# Altium footprint library ConnectorsGOST.PcbLib: 50 footprints (part 2 of 4)
Each footprint in its own frame and in the unit in brackets; x right, y up, seen from the top. Pads: shape width x height; smd on the part's side, far side on the other; paste and mask are expansions set on the pad; w line width, h text height; cw(c..) or ccw(c..) is an arc to the next point about the centre after c.
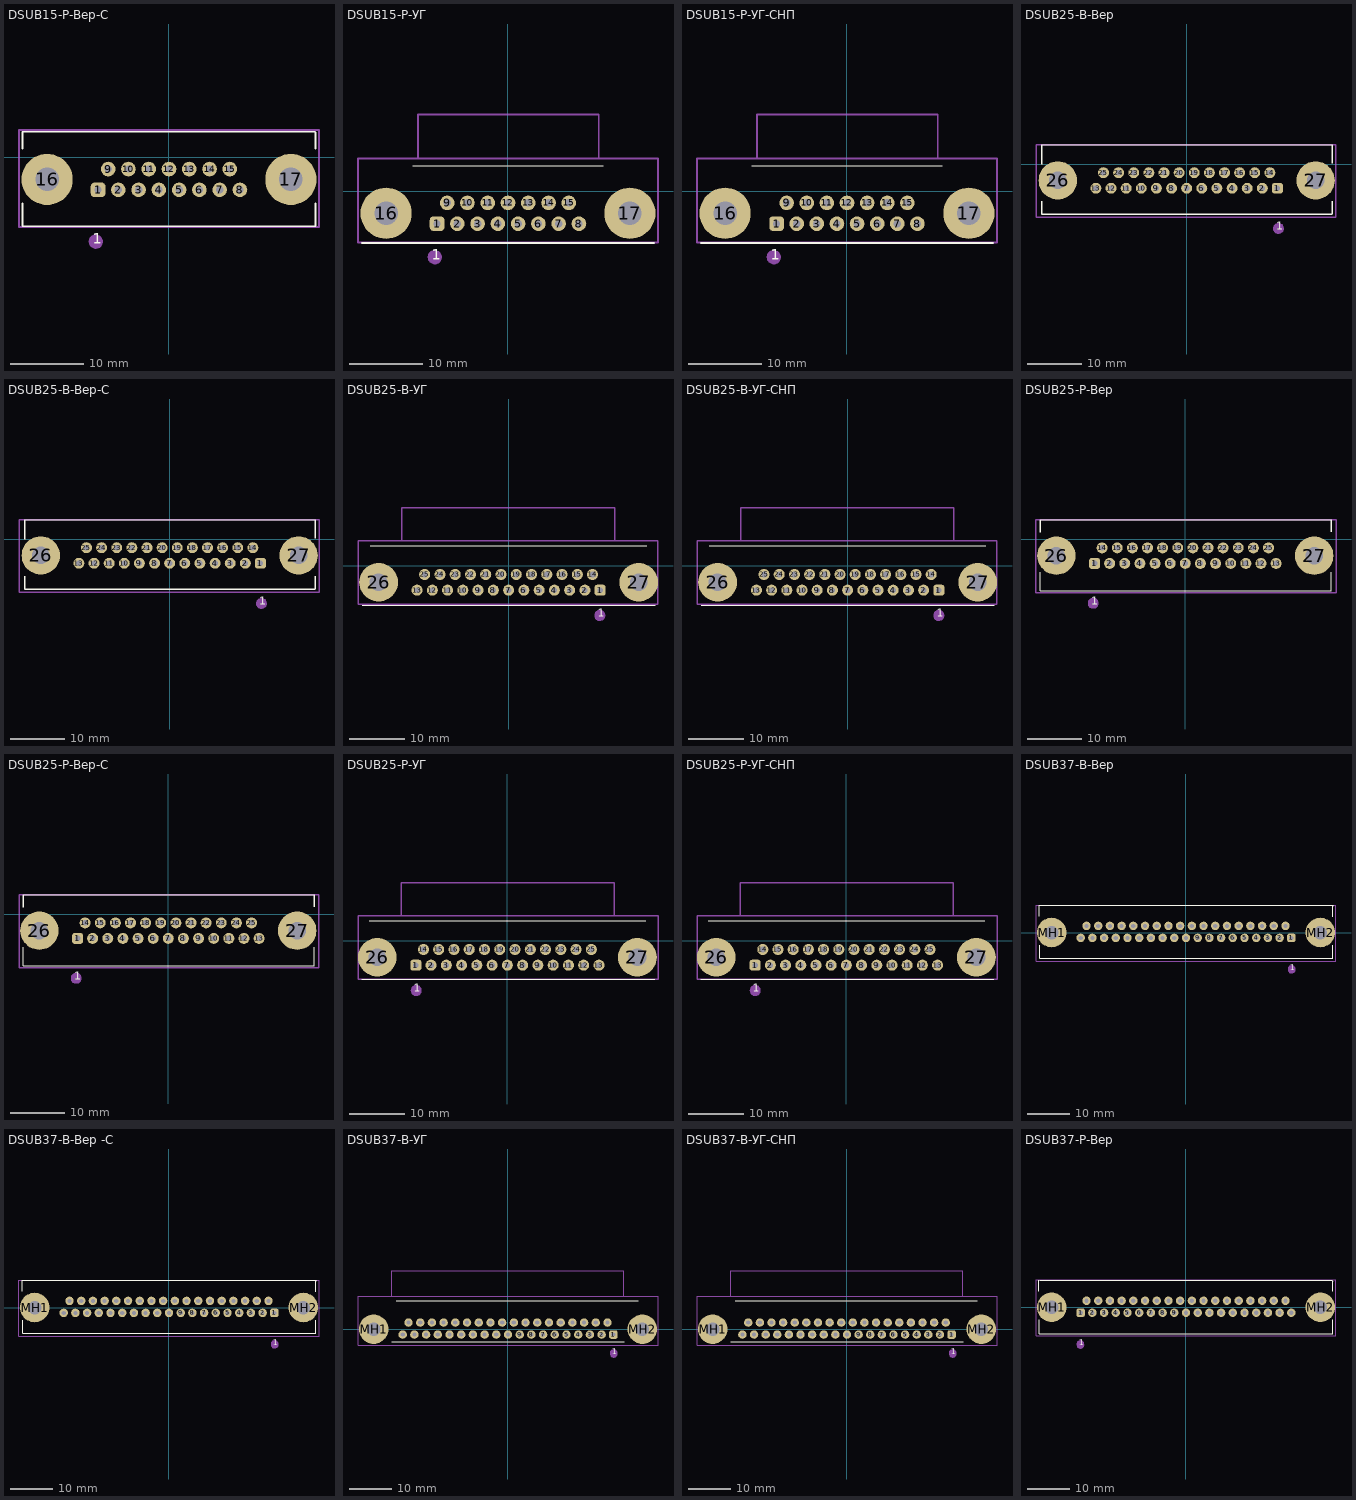
[diagram p1: the footprints below, top view; thin cyan lines are the x and y axes]

## DSUB15-Р-Вер-С [mm] "Connector; D Subminiature; 15 Position; Right Angle; Pitch 1.385 mm"
height 12.75
pads (17):
  rrect50% 2x2 hole 1: 1(-9.695,-4.42)
  round 2 hole 1: 2(-6.925,-4.42) 3(-4.155,-4.42) 4(-1.385,-4.42) 5(1.385,-4.42) 6(4.155,-4.42) 7(6.925,-4.42) 8(9.695,-4.42) 9(-8.31,-1.58) 10(-5.54,-1.58) 11(-2.77,-1.58) 12(0,-1.58) 13(2.77,-1.58) 14(5.54,-1.58) 15(8.31,-1.58)
  round 7 / inner round 4.2 / far side round 7 hole 3.2: 16(-16.66,-3) 17(16.66,-3)
Top Overlay:
  lines w0.2: -20,3.5 20,3.5
  lines w0.25: -20,1.25 -20,3.5 ; 20,1.25 20,3.4
  lines w0.254: -20,-6.25 -20,-9.4 20,-9.4 20,-6.25
  text "1" at -10.4,-12.3 h2.5
Top Sborka:
  circle w0.8: c-10,-11.5 r0.4
  circle w0.25: c-10,-11.5 r0.09
  circle w0.25: c-10,-11.5 r0.506
  circle w0.25: c-10,-11.5 r0.861
  circle w0.25: c-10,-11.5 r0.292
  circle w0.25: c-10,-11.5 r0.704
  lines w0.25: -20.5,-9.5 20.5,-9.5 20.5,3.75 -20.5,3.75 -20.5,-9.5
Top Designator (Mech16):
  text ".Designator" at -5.15,-3.747 h2.5
3D body "Сборка D-SUB15-Р-Вер-С.stp": height 11.8, standoff -5.01, extent -19.6,-9.1 19.6,3.4

## DSUB15-Р-УГ [mm] "Connector; D Subminiature; 15 Position; Right Angle; Pitch 1.385 mm"
height 12.75
pads (17):
  rrect50% 2x2 hole 1: 1(-9.695,-4.42)
  round 2 hole 1: 2(-6.925,-4.42) 3(-4.155,-4.42) 4(-1.385,-4.42) 5(1.385,-4.42) 6(4.155,-4.42) 7(6.925,-4.42) 8(9.695,-4.42) 9(-8.31,-1.58) 10(-5.54,-1.58) 11(-2.77,-1.58) 12(0,-1.58) 13(2.77,-1.58) 14(5.54,-1.58) 15(8.31,-1.58)
  round 7 / inner round 4.2 / far side round 7 hole 3.2: 16(-16.66,-3) 17(16.66,-3)
Top Overlay:
  lines w0.15: -13,3.5 13,3.5
  lines w0.25: -19.988,-7.075 19.975,-7.075
  text "1" at -10.4,-9.8 h2.5
Top Sborka:
  circle w0.25: c-10,-9 r0.704
  circle w0.25: c-10,-9 r0.292
  circle w0.25: c-10,-9 r0.861
  circle w0.25: c-10,-9 r0.506
  circle w0.25: c-10,-9 r0.09
  circle w0.8: c-10,-9 r0.4
  lines w0.25: -20.5,-7 20.5,-7 20.5,4.5 -20.5,4.5 -20.5,-7 ; -12.3,4.5 12.4,4.5 12.4,10.5 -12.3,10.5 -12.3,4.5
Top Designator (Mech16):
  text ".Designator" at -5.15,-3.647 h2.5
3D body "DSUB-15_Female_Horizontal_P2.77x2.84mm_EdgePinOffset4.94mm_Housed_MountingHolesOffset7.48mm.step": height 12.5, standoff -5.4, extent -19.675,-7.2 19.525,9.68

## DSUB15-Р-УГ-СНП [mm] "Connector; D Subminiature; 15 Position; Right Angle; Pitch 1.385 mm"
height 12.75
pads (17):
  rrect50% 2x2 hole 1: 1(-9.625,-4.42)
  round 2 hole 1: 2(-6.875,-4.42) 3(-4.125,-4.42) 4(-1.375,-4.42) 5(1.375,-4.42) 6(4.125,-4.42) 7(6.875,-4.42) 8(9.625,-4.42) 9(-8.25,-1.58) 10(-5.5,-1.58) 11(-2.75,-1.58) 12(0,-1.58) 13(2.75,-1.58) 14(5.5,-1.58) 15(8.25,-1.58)
  round 7 / inner round 4.2 / far side round 7 hole 3.2: 16(-16.66,-3) 17(16.66,-3)
Top Overlay:
  lines w0.15: -13,3.5 13,3.5
  lines w0.25: -19.988,-7.075 19.975,-7.075
  text "1" at -10.4,-9.8 h2.5
Top Sborka:
  circle w0.8: c-10,-9 r0.4
  circle w0.25: c-10,-9 r0.09
  circle w0.25: c-10,-9 r0.506
  circle w0.25: c-10,-9 r0.861
  circle w0.25: c-10,-9 r0.292
  circle w0.25: c-10,-9 r0.704
  lines w0.25: -20.5,-7 20.5,-7 20.5,4.5 -20.5,4.5 -20.5,-7 ; -12.3,4.5 12.4,4.5 12.4,10.5 -12.3,10.5 -12.3,4.5
Top Designator (Mech16):
  text ".Designator" at -5.15,-3.647 h2.5
3D body "DSUB-15_Female_Horizontal_P2.77x2.84mm_EdgePinOffset4.94mm_Housed_MountingHolesOffset7.48mm.step": height 12.5, standoff -5.4, extent -19.675,-7.2 19.525,9.68

## DSUB25-В-Вер [mm] "Connector; D Subminiature; 25 Position; Right Angle; Pitch 1.385 mm"
height 12.93
pads (27):
  rrect50% 2x2 hole 1: 1(16.566,-4.42)
  round 2 hole 1: 2(13.805,-4.42) 3(11.044,-4.42) 4(8.283,-4.42) 5(5.522,-4.42) 6(2.761,-4.42) 7(0,-4.42) 8(-2.761,-4.42) 9(-5.522,-4.42) 10(-8.283,-4.42) 11(-11.044,-4.42) 12(-13.805,-4.42) 13(-16.566,-4.42) 14(15.185,-1.58) 15(12.424,-1.58) 16(9.663,-1.58) 17(6.902,-1.58) 18(4.141,-1.58) 19(1.38,-1.58) 20(-1.381,-1.58) 21(-4.142,-1.58) 22(-6.903,-1.58) 23(-9.664,-1.58) 24(-12.425,-1.58) 25(-15.186,-1.58)
  round 7 / inner round 4.2 / far side round 7 hole 3.2: 26(-23.526,-3) 27(23.526,-3)
Top Overlay:
  lines w0.2: -26.496,3.5 26.604,3.5
  lines w0.25: -26.496,0.004 -26.496,3.5 ; 26.604,0.104 26.604,3.5
  lines w0.254: -26.496,-6.75 -26.496,-9.196 -26.492,-9.2 26.5,-9.2 ; 26.604,-9.196 26.604,-6.75
  text "1" at 16.35,-12.543 h2.5
Top Sborka:
  circle w0.25: c16.75,-11.75 r0.704
  circle w0.25: c16.75,-11.75 r0.292
  circle w0.25: c16.75,-11.75 r0.861
  circle w0.25: c16.75,-11.75 r0.506
  circle w0.25: c16.75,-11.75 r0.09
  circle w0.8: c16.75,-11.75 r0.4
  lines w0.25: -27.5,-9.75 27.25,-9.75 27.25,3.5 -27.5,3.5 -27.5,-9.75
Top Designator (Mech16):
  text ".Designator" at -5.15,-3.947 h2.5
3D body "DSUB-25_Male_Vertical_P2.77x2.84mm_MountingHoles.step": height 10.5, standoff -3.9, extent -26.55,-9.2 26.55,3.3

## DSUB25-В-Вер-С [mm] "Connector; D Subminiature; 25 Position; Right Angle; Pitch 1.385 mm"
height 12.93
pads (27):
  rrect50% 2x2 hole 1: 1(16.566,-4.42)
  round 2 hole 1: 2(13.805,-4.42) 3(11.044,-4.42) 4(8.283,-4.42) 5(5.522,-4.42) 6(2.761,-4.42) 7(0,-4.42) 8(-2.761,-4.42) 9(-5.522,-4.42) 10(-8.283,-4.42) 11(-11.044,-4.42) 12(-13.805,-4.42) 13(-16.566,-4.42) 14(15.185,-1.58) 15(12.424,-1.58) 16(9.663,-1.58) 17(6.902,-1.58) 18(4.141,-1.58) 19(1.38,-1.58) 20(-1.381,-1.58) 21(-4.142,-1.58) 22(-6.903,-1.58) 23(-9.664,-1.58) 24(-12.425,-1.58) 25(-15.186,-1.58)
  round 7 / inner round 4.2 / far side round 7 hole 3.2: 26(-23.526,-3) 27(23.526,-3)
Top Overlay:
  lines w0.2: -26.496,3.5 26.604,3.5
  lines w0.25: -26.496,0.004 -26.496,3.5 ; 26.604,0.104 26.604,3.5
  lines w0.254: -26.496,-6.75 -26.496,-9.196 -26.492,-9.2 26.5,-9.2 ; 26.604,-9.196 26.604,-6.75
  text "1" at 16.35,-12.543 h2.5
Top Sborka:
  circle w0.8: c16.75,-11.75 r0.4
  circle w0.25: c16.75,-11.75 r0.09
  circle w0.25: c16.75,-11.75 r0.506
  circle w0.25: c16.75,-11.75 r0.861
  circle w0.25: c16.75,-11.75 r0.292
  circle w0.25: c16.75,-11.75 r0.704
  lines w0.25: -27.5,-9.75 27.25,-9.75 27.25,3.5 -27.5,3.5 -27.5,-9.75
Top Designator (Mech16):
  text ".Designator" at -5.15,-3.947 h2.5
3D body "Сборка D-SUB25-В-Вер-С.stp": height 11.5, standoff -5, extent -26.57,-9.23 26.53,3.27

## DSUB25-В-УГ [mm] "Connector; D Subminiature; 25 Position; Right Angle; Pitch 1.385 mm"
height 12.93
pads (27):
  rrect50% 2x2 hole 1: 1(16.566,-4.42)
  round 2 hole 1: 2(13.805,-4.42) 3(11.044,-4.42) 4(8.283,-4.42) 5(5.522,-4.42) 6(2.761,-4.42) 7(0,-4.42) 8(-2.761,-4.42) 9(-5.522,-4.42) 10(-8.283,-4.42) 11(-11.044,-4.42) 12(-13.805,-4.42) 13(-16.566,-4.42) 14(15.185,-1.58) 15(12.424,-1.58) 16(9.663,-1.58) 17(6.902,-1.58) 18(4.141,-1.58) 19(1.38,-1.58) 20(-1.381,-1.58) 21(-4.142,-1.58) 22(-6.903,-1.58) 23(-9.664,-1.58) 24(-12.425,-1.58) 25(-15.186,-1.58)
  round 7 / inner round 4.2 / far side round 7 hole 3.2: 26(-23.526,-3) 27(23.526,-3)
Top Overlay:
  lines w0.15: -25,3.6 25,3.6
  lines w0.2: -26.5,-7.1 26.5,-7.1
  text "1" at 16.1,-9.8 h2.5
Top Sborka:
  circle w0.25: c16.5,-9 r0.704
  circle w0.25: c16.5,-9 r0.292
  circle w0.25: c16.5,-9 r0.861
  circle w0.25: c16.5,-9 r0.506
  circle w0.25: c16.5,-9 r0.09
  circle w0.8: c16.5,-9 r0.4
  lines w0.25: -27.25,-7 27,-7 27,4.5 -27.25,4.5 -27.25,-7 ; -19.3,4.5 19.2,4.5 19.2,10.5 -19.3,10.5 -19.3,4.5
Top Designator (Mech16):
  text ".Designator" at -5.15,-3.547 h2.5
3D body "DSUB-25_Male_Horizontal_P2.77x2.84mm_EdgePinOffset4.94mm_Housed_MountingHolesOffset7.48mm.step": height 12.5, standoff -5.4, extent -26.55,-6.98 26.55,9.6

## DSUB25-В-УГ-СНП [mm] "Connector; D Subminiature; 25 Position; Right Angle; Pitch 1.385 mm"
height 12.93
pads (27):
  rrect50% 2x2 hole 1: 1(16.5,-4.42)
  round 2 hole 1: 2(13.75,-4.42) 3(11,-4.42) 4(8.25,-4.42) 5(5.5,-4.42) 6(2.75,-4.42) 7(0,-4.42) 8(-2.75,-4.42) 9(-5.5,-4.42) 10(-8.25,-4.42) 11(-11,-4.42) 12(-13.75,-4.42) 13(-16.5,-4.42) 14(15.125,-1.58) 15(12.375,-1.58) 16(9.625,-1.58) 17(6.875,-1.58) 18(4.125,-1.58) 19(1.375,-1.58) 20(-1.375,-1.58) 21(-4.125,-1.58) 22(-6.875,-1.58) 23(-9.625,-1.58) 24(-12.375,-1.58) 25(-15.125,-1.58)
  round 7 / inner round 4.2 / far side round 7 hole 3.2: 26(-23.526,-3) 27(23.526,-3)
Top Overlay:
  lines w0.15: -25,3.6 25,3.6
  lines w0.2: -26.5,-7.1 26.5,-7.1
  text "1" at 16.1,-9.8 h2.5
Top Sborka:
  circle w0.25: c16.5,-9 r0.704
  circle w0.25: c16.5,-9 r0.292
  circle w0.25: c16.5,-9 r0.861
  circle w0.25: c16.5,-9 r0.506
  circle w0.25: c16.5,-9 r0.09
  circle w0.8: c16.5,-9 r0.4
  lines w0.25: -27.25,-7 27,-7 27,4.5 -27.25,4.5 -27.25,-7 ; -19.3,4.5 19.2,4.5 19.2,10.5 -19.3,10.5 -19.3,4.5
Top Designator (Mech16):
  text ".Designator" at -5.15,-3.547 h2.5
3D body "DSUB-25_Male_Horizontal_P2.77x2.84mm_EdgePinOffset4.94mm_Housed_MountingHolesOffset7.48mm.step": height 12.5, standoff -5.4, extent -26.55,-6.98 26.55,9.6

## DSUB25-Р-Вер [mm] "Connector; D Subminiature; 25 Position; Right Angle; Pitch 1.385 mm"
height 12.93
pads (27):
  rrect50% 2x2 hole 1: 1(-16.566,-4.42)
  round 2 hole 1: 2(-13.805,-4.42) 3(-11.044,-4.42) 4(-8.283,-4.42) 5(-5.522,-4.42) 6(-2.761,-4.42) 7(0,-4.42) 8(2.761,-4.42) 9(5.522,-4.42) 10(8.283,-4.42) 11(11.044,-4.42) 12(13.805,-4.42) 13(16.566,-4.42) 14(-15.185,-1.58) 15(-12.424,-1.58) 16(-9.663,-1.58) 17(-6.902,-1.58) 18(-4.141,-1.58) 19(-1.38,-1.58) 20(1.381,-1.58) 21(4.142,-1.58) 22(6.903,-1.58) 23(9.664,-1.58) 24(12.425,-1.58) 25(15.186,-1.58)
  round 7 / inner round 4.2 / far side round 7 hole 3.2: 26(-23.526,-3) 27(23.526,-3)
Top Overlay:
  lines w0.2: -26.496,-6 -26.496,-9.4 26.604,-9.4 26.604,-6 ; -26.496,3.5 26.604,3.5
  lines w0.25: -26.496,1.254 -26.496,3.5 ; 26.604,1.354 26.604,3.5
  text "1" at -17.2,-12.5 h2.5
Top Sborka:
  circle w0.8: c-16.8,-11.7 r0.4
  circle w0.25: c-16.8,-11.7 r0.09
  circle w0.25: c-16.8,-11.7 r0.506
  circle w0.25: c-16.8,-11.7 r0.861
  circle w0.25: c-16.8,-11.7 r0.292
  circle w0.25: c-16.8,-11.7 r0.704
  lines w0.25: -27.25,-9.75 27.5,-9.75 27.5,3.5 -27.25,3.5 -27.25,-9.75
Top Designator (Mech16):
  text ".Designator" at -5.15,-3.547 h2.5
3D body "DSUB-25_Female_Vertical_P2.77x2.84mm_MountingHoles.step": height 10.8, standoff -3.9, extent -26.55,-9.2 26.55,3.3

## DSUB25-Р-Вер-С [mm] "Connector; D Subminiature; 25 Position; Right Angle; Pitch 1.385 mm"
height 12.93
pads (27):
  rrect50% 2x2 hole 1: 1(-16.566,-4.42)
  round 2 hole 1: 2(-13.805,-4.42) 3(-11.044,-4.42) 4(-8.283,-4.42) 5(-5.522,-4.42) 6(-2.761,-4.42) 7(0,-4.42) 8(2.761,-4.42) 9(5.522,-4.42) 10(8.283,-4.42) 11(11.044,-4.42) 12(13.805,-4.42) 13(16.566,-4.42) 14(-15.185,-1.58) 15(-12.424,-1.58) 16(-9.663,-1.58) 17(-6.902,-1.58) 18(-4.141,-1.58) 19(-1.38,-1.58) 20(1.381,-1.58) 21(4.142,-1.58) 22(6.903,-1.58) 23(9.664,-1.58) 24(12.425,-1.58) 25(15.186,-1.58)
  round 7 / inner round 4.2 / far side round 7 hole 3.2: 26(-23.526,-3) 27(23.526,-3)
Top Overlay:
  lines w0.2: -26.496,-6 -26.496,-9.4 26.604,-9.4 26.604,-6 ; -26.496,3.5 26.604,3.5
  lines w0.25: -26.496,1.254 -26.496,3.5 ; 26.604,1.354 26.604,3.5
  text "1" at -17.2,-12.5 h2.5
Top Sborka:
  circle w0.25: c-16.8,-11.7 r0.704
  circle w0.25: c-16.8,-11.7 r0.292
  circle w0.25: c-16.8,-11.7 r0.861
  circle w0.25: c-16.8,-11.7 r0.506
  circle w0.25: c-16.8,-11.7 r0.09
  circle w0.8: c-16.8,-11.7 r0.4
  lines w0.25: -27.25,-9.75 27.5,-9.75 27.5,3.5 -27.25,3.5 -27.25,-9.75
Top Designator (Mech16):
  text ".Designator" at -5.15,-3.547 h2.5
3D body "Сборка D-SUB25-Р-Вер-С.stp": height 11.8, standoff -5, extent -26.45,-9.2 26.65,3.3

## DSUB25-Р-УГ [mm] "Connector; D Subminiature; 25 Position; Right Angle; Pitch 1.385 mm"
height 12.93
pads (27):
  rrect50% 2x2 hole 1: 1(-16.566,-4.42)
  round 2 hole 1: 2(-13.805,-4.42) 3(-11.044,-4.42) 4(-8.283,-4.42) 5(-5.522,-4.42) 6(-2.761,-4.42) 7(0,-4.42) 8(2.761,-4.42) 9(5.522,-4.42) 10(8.283,-4.42) 11(11.044,-4.42) 12(13.805,-4.42) 13(16.566,-4.42) 14(-15.185,-1.58) 15(-12.424,-1.58) 16(-9.663,-1.58) 17(-6.902,-1.58) 18(-4.141,-1.58) 19(-1.38,-1.58) 20(1.381,-1.58) 21(4.142,-1.58) 22(6.903,-1.58) 23(9.664,-1.58) 24(12.425,-1.58) 25(15.186,-1.58)
  round 7 / inner round 4.2 / far side round 7 hole 3.2: 26(-23.526,-3) 27(23.526,-3)
Top Overlay:
  lines w0.15: -25,3.6 25,3.6
  lines w0.2: -26.375,-7 26.625,-7
  text "1" at -16.9,-9.8 h2.5
Top Sborka:
  circle w0.25: c-16.5,-9 r0.704
  circle w0.25: c-16.5,-9 r0.292
  circle w0.25: c-16.5,-9 r0.861
  circle w0.25: c-16.5,-9 r0.506
  circle w0.25: c-16.5,-9 r0.09
  circle w0.8: c-16.5,-9 r0.4
  lines w0.25: -27,-7 27.25,-7 27.25,4.5 -27,4.5 -27,-7 ; -19.2,4.5 19.3,4.5 19.3,10.5 -19.2,10.5 -19.2,4.5
Top Designator (Mech16):
  text ".Designator" at -5.15,-2.347 h2.5
3D body "DSUB-25_Female_Horizontal_P2.77x2.84mm_EdgePinOffset4.94mm_Housed_MountingHolesOffset7.48mm.step": height 12.5, standoff -5.4, extent -26.525,-7.03 26.575,9.85

## DSUB25-Р-УГ-СНП [mm] "Connector; D Subminiature; 25 Position; Right Angle; Pitch 1.385 mm"
height 12.93
pads (27):
  rrect50% 2x2 hole 1: 1(-16.5,-4.42)
  round 2 hole 1: 2(-13.75,-4.42) 3(-11,-4.42) 4(-8.25,-4.42) 5(-5.5,-4.42) 6(-2.75,-4.42) 7(0,-4.42) 8(2.75,-4.42) 9(5.5,-4.42) 10(8.25,-4.42) 11(11,-4.42) 12(13.75,-4.42) 13(16.5,-4.42) 14(-15.125,-1.58) 15(-12.375,-1.58) 16(-9.625,-1.58) 17(-6.875,-1.58) 18(-4.125,-1.58) 19(-1.375,-1.58) 20(1.375,-1.58) 21(4.125,-1.58) 22(6.875,-1.58) 23(9.625,-1.58) 24(12.375,-1.58) 25(15.125,-1.58)
  round 7 / inner round 4.2 / far side round 7 hole 3.2: 26(-23.526,-3) 27(23.526,-3)
Top Overlay:
  lines w0.15: -25,3.6 25,3.6
  lines w0.2: -26.375,-7 26.625,-7
  text "1" at -16.9,-9.8 h2.5
Top Sborka:
  circle w0.8: c-16.5,-9 r0.4
  circle w0.25: c-16.5,-9 r0.09
  circle w0.25: c-16.5,-9 r0.506
  circle w0.25: c-16.5,-9 r0.861
  circle w0.25: c-16.5,-9 r0.292
  circle w0.25: c-16.5,-9 r0.704
  lines w0.25: -27,-7 -27,4.5 27.25,4.5 27.25,-7 -27,-7 ; -19.2,4.5 -19.2,10.5 19.3,10.5 19.3,4.5 -19.2,4.5
Top Designator (Mech16):
  text ".Designator" at -5.15,-2.347 h2.5
3D body "DSUB-25_Female_Horizontal_P2.77x2.84mm_EdgePinOffset4.94mm_Housed_MountingHolesOffset7.48mm.step": height 12.5, standoff -5.4, extent -26.525,-7.03 26.575,9.85

## DSUB37-В-Вер [mm] "CONN, DSUB MINIATURE, 37PIN, R/A, MALE"
pads (39):
  rrect50% 2x2 hole 1 mask+0.1: 1(24.93,-1.27)
  round 2 hole 1 mask+0.1: 2(22.16,-1.27) 3(19.39,-1.27) 4(16.62,-1.27) 5(13.85,-1.27) 6(11.08,-1.27) 7(8.31,-1.27) 8(5.54,-1.27) 9(2.77,-1.27) 10(0,-1.27) 11(-2.77,-1.27) 12(-5.54,-1.27) 13(-8.31,-1.27) 14(-11.08,-1.27) 15(-13.85,-1.27) 16(-16.62,-1.27) 17(-19.39,-1.27) 18(-22.16,-1.27) 19(-24.93,-1.27) 20(23.545,1.57) 21(20.775,1.57) 22(18.005,1.57) 23(15.235,1.57) 24(12.465,1.57) 25(9.695,1.57) 26(6.925,1.57) 27(4.155,1.57) 28(1.385,1.57) 29(-1.385,1.57) 30(-4.155,1.57) 31(-6.925,1.57) 32(-9.695,1.57) 33(-12.465,1.57) 34(-15.235,1.57) 35(-18.005,1.57) 36(-20.775,1.57) 37(-23.545,1.57)
  round 7 / inner round 4.2 / far side round 7 hole 3.2: MH1(-31.8,0) MH2(31.8,0)
Top Overlay:
  lines w0.2: -34.646,-2.963 -34.646,-6.1 34.781,-6.1 34.781,-2.963
  lines w0.25: -34.7,3.8 -34.7,6.4 ; 34.75,3.75 34.75,6.35
  lines w0.254: -34.7,6.4 34.7,6.4 34.8,6.3
  text "1" at 24.598,-9.499 h2.5
Top Sborka:
  circle w0.25: c25,-8.7 r0.704
  circle w0.25: c25,-8.7 r0.292
  circle w0.25: c25,-8.7 r0.861
  circle w0.25: c25,-8.7 r0.506
  circle w0.25: c25,-8.7 r0.09
  circle w0.8: c25,-8.7 r0.4
  lines w0.25: -35.5,-6.75 35.5,-6.75 35.5,6.5 -35.5,6.5 -35.5,-6.75
Top Designator (Mech16):
  text ".Designator" at -5.15,-0.547 h2.5
3D body "DSUB-37_Female_Vertical_P2.77x2.84mm_MountingHoles.step": height 10.8, standoff -3.9, extent -34.7,-6.1 34.7,6.4

## DSUB37-В-Вер -С [mm] "CONN, DSUB MINIATURE, 37PIN, R/A, MALE"
pads (39):
  rrect50% 2x2 hole 1 mask+0.1: 1(24.93,-1.27)
  round 2 hole 1 mask+0.1: 2(22.16,-1.27) 3(19.39,-1.27) 4(16.62,-1.27) 5(13.85,-1.27) 6(11.08,-1.27) 7(8.31,-1.27) 8(5.54,-1.27) 9(2.77,-1.27) 10(0,-1.27) 11(-2.77,-1.27) 12(-5.54,-1.27) 13(-8.31,-1.27) 14(-11.08,-1.27) 15(-13.85,-1.27) 16(-16.62,-1.27) 17(-19.39,-1.27) 18(-22.16,-1.27) 19(-24.93,-1.27) 20(23.545,1.57) 21(20.775,1.57) 22(18.005,1.57) 23(15.235,1.57) 24(12.465,1.57) 25(9.695,1.57) 26(6.925,1.57) 27(4.155,1.57) 28(1.385,1.57) 29(-1.385,1.57) 30(-4.155,1.57) 31(-6.925,1.57) 32(-9.695,1.57) 33(-12.465,1.57) 34(-15.235,1.57) 35(-18.005,1.57) 36(-20.775,1.57) 37(-23.545,1.57)
  round 7 / inner round 4.2 / far side round 7 hole 3.2: MH1(-31.8,0) MH2(31.8,0)
Top Overlay:
  lines w0.2: -34.646,-2.963 -34.646,-6.1 34.781,-6.1 34.781,-2.963
  lines w0.25: -34.7,3.8 -34.7,6.4 ; 34.75,3.75 34.75,6.35
  lines w0.254: -34.7,6.4 34.7,6.4 34.8,6.3
  text "1" at 24.598,-9.499 h2.5
Top Sborka:
  circle w0.25: c25,-8.7 r0.704
  circle w0.25: c25,-8.7 r0.292
  circle w0.25: c25,-8.7 r0.861
  circle w0.25: c25,-8.7 r0.506
  circle w0.25: c25,-8.7 r0.09
  circle w0.8: c25,-8.7 r0.4
  lines w0.25: -35.5,-6.75 -35.5,6.5 35.5,6.5 35.5,-6.75 -35.5,-6.75
Top Designator (Mech16):
  text ".Designator" at -5.15,-0.547 h2.5
3D body "Сборка D-SUB37-В-Вер-С.stp": height 11.5, standoff -5, extent -34.83,-6.03 34.57,6.47

## DSUB37-В-УГ [mm] "CONN, DSUB MINIATURE, 37PIN, R/A, MALE"
pads (39):
  rrect50% 2x2 hole 1 mask+0.1: 1(24.93,-1.27)
  round 2 hole 1 mask+0.1: 2(22.16,-1.27) 3(19.39,-1.27) 4(16.62,-1.27) 5(13.85,-1.27) 6(11.08,-1.27) 7(8.31,-1.27) 8(5.54,-1.27) 9(2.77,-1.27) 10(0,-1.27) 11(-2.77,-1.27) 12(-5.54,-1.27) 13(-8.31,-1.27) 14(-11.08,-1.27) 15(-13.85,-1.27) 16(-16.62,-1.27) 17(-19.39,-1.27) 18(-22.16,-1.27) 19(-24.93,-1.27) 20(23.545,1.57) 21(20.775,1.57) 22(18.005,1.57) 23(15.235,1.57) 24(12.465,1.57) 25(9.695,1.57) 26(6.925,1.57) 27(4.155,1.57) 28(1.385,1.57) 29(-1.385,1.57) 30(-4.155,1.57) 31(-6.925,1.57) 32(-9.695,1.57) 33(-12.465,1.57) 34(-15.235,1.57) 35(-18.005,1.57) 36(-20.775,1.57) 37(-23.545,1.57)
  round 7 / inner round 4.2 / far side round 7 hole 3.2: MH1(-31.8,0) MH2(31.8,0)
Top Overlay:
  lines w0.15: -26.4,6.7 30.8,6.7
  lines w0.2: -27.5,-3 27.5,-2.963
  text "1" at 24.6,-6.5 h2.5
Top Sborka:
  circle w0.25: c25,-5.75 r0.704
  circle w0.25: c25,-5.75 r0.292
  circle w0.25: c25,-5.75 r0.861
  circle w0.25: c25,-5.75 r0.506
  circle w0.25: c25,-5.75 r0.09
  circle w0.8: c25,-5.75 r0.4
  lines w0.25: -35.5,-3.75 -35.5,7.8 35.5,7.8 35.5,-3.75 -35.5,-3.75 ; -27.5,7.8 27.4,7.8 27.4,13.8 -27.5,13.8 -27.5,7.8
Top Designator (Mech16):
  text ".Designator" at -5.15,-0.547 h2.5
3D body "connector_a-DSUB37RM_a_kg-t1.stp": height 12.57, standoff -4.3, extent -34.66,-2.9 34.66,18

## DSUB37-В-УГ-СНП [mm] "CONN, DSUB MINIATURE, 37PIN, R/A, MALE"
pads (39):
  rrect50% 2x2 hole 1 mask+0.1: 1(24.75,-1.27)
  round 2 hole 1 mask+0.1: 2(22,-1.27) 3(19.25,-1.27) 4(16.5,-1.27) 5(13.75,-1.27) 6(11,-1.27) 7(8.25,-1.27) 8(5.5,-1.27) 9(2.75,-1.27) 10(0,-1.27) 11(-2.75,-1.27) 12(-5.5,-1.27) 13(-8.25,-1.27) 14(-11,-1.27) 15(-13.75,-1.27) 16(-16.5,-1.27) 17(-19.25,-1.27) 18(-22,-1.27) 19(-24.75,-1.27) 20(23.375,1.57) 21(20.625,1.57) 22(17.875,1.57) 23(15.125,1.57) 24(12.375,1.57) 25(9.625,1.57) 26(6.875,1.57) 27(4.125,1.57) 28(1.375,1.57) 29(-1.375,1.57) 30(-4.125,1.57) 31(-6.875,1.57) 32(-9.625,1.57) 33(-12.375,1.57) 34(-15.125,1.57) 35(-17.875,1.57) 36(-20.625,1.57) 37(-23.375,1.57)
  round 7 / inner round 4.2 / far side round 7 hole 3.2: MH1(-31.8,0) MH2(31.8,0)
Top Overlay:
  lines w0.15: -26.4,6.7 30.8,6.7
  lines w0.2: -27.5,-3 27.5,-2.963
  text "1" at 24.6,-6.5 h2.5
Top Sborka:
  circle w0.8: c25,-5.75 r0.4
  circle w0.25: c25,-5.75 r0.09
  circle w0.25: c25,-5.75 r0.506
  circle w0.25: c25,-5.75 r0.861
  circle w0.25: c25,-5.75 r0.292
  circle w0.25: c25,-5.75 r0.704
  lines w0.25: -35.5,-3.75 35.5,-3.75 35.5,7.8 -35.5,7.8 -35.5,-3.75 ; -27.5,7.8 -27.5,13.8 27.4,13.8 27.4,7.8 -27.5,7.8
Top Designator (Mech16):
  text ".Designator" at -5.15,-0.547 h2.5
3D body "connector_a-DSUB37RM_a_kg-t1.stp": height 12.57, standoff -4.3, extent -34.66,-2.9 34.66,18

## DSUB37-Р-Вер [mm] "CONN, DSUB MINIATURE, CONN, DSUB MINIATURE, 37PIN, R/A, FEMALE"
pads (39):
  rrect50% 2x2 hole 1 mask+0.1: 1(-24.93,-1.27)
  round 2 hole 1 mask+0.1: 2(-22.16,-1.27) 3(-19.39,-1.27) 4(-16.62,-1.27) 5(-13.85,-1.27) 6(-11.08,-1.27) 7(-8.31,-1.27) 8(-5.54,-1.27) 9(-2.77,-1.27) 10(0,-1.27) 11(2.77,-1.27) 12(5.54,-1.27) 13(8.31,-1.27) 14(11.08,-1.27) 15(13.85,-1.27) 16(16.62,-1.27) 17(19.39,-1.27) 18(22.16,-1.27) 19(24.93,-1.27) 20(-23.545,1.57) 21(-20.775,1.57) 22(-18.005,1.57) 23(-15.235,1.57) 24(-12.465,1.57) 25(-9.695,1.57) 26(-6.925,1.57) 27(-4.155,1.57) 28(-1.385,1.57) 29(1.385,1.57) 30(4.155,1.57) 31(6.925,1.57) 32(9.695,1.57) 33(12.465,1.57) 34(15.235,1.57) 35(18.005,1.57) 36(20.775,1.57) 37(23.545,1.57)
  round 7 / inner round 4.2 / far side round 7 hole 3.2: MH1(-31.8,0) MH2(31.8,0)
Top Overlay:
  lines w0.2: -34.713,-2.963 -34.713,-6.3 34.713,-6.3 34.713,-2.963
  lines w0.25: -34.8,3.8 -34.8,6.45 ; 34.7,3.8 34.7,6.2
  lines w0.254: -34.6,6.4 34.5,6.4 34.7,6.2 ; 34.6,-2.9 34.7,-3
  text "1" at -25.4,-9.6 h2.5
Top Sborka:
  circle w0.8: c-25,-8.8 r0.4
  circle w0.25: c-25,-8.8 r0.09
  circle w0.25: c-25,-8.8 r0.506
  circle w0.25: c-25,-8.8 r0.861
  circle w0.25: c-25,-8.8 r0.292
  circle w0.25: c-25,-8.8 r0.704
  lines w0.25: -35.5,-6.75 35.5,-6.75 35.5,6.5 -35.5,6.5 -35.5,-6.75
Top Designator (Mech16):
  text ".Designator" at -5.15,-0.447 h2.5
3D body "DSUB-37_Male_Vertical_P2.77x2.84mm_MountingHoles.step": height 10.5, standoff -3.9, extent -34.8,-6.05 34.6,6.45